# Altium schematic symbol library LNK304.SchLib: 1 symbol
Pins are listed as number, name and electrical type; pins without a type are passive.

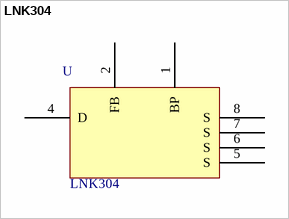
[diagram p0: symbol LNK304]

## LNK304
designator U  value LNK304  (hidden comment: *)
Manufacturer: Power Integrations; Manufacturer Code: LNK304DN; Current: 170mA; Farnell Code: 1448222; Unit Price: 1,21 €
footprint LNK304 (Footprint not found)
pins: 1 BP, 2 FB, 4 D, 5 S, 6 S, 7 S, 8 S